# Altium schematic symbol library SCH - CONNECTORS - WURTH 693071010811 MICROSD.SCHLIB: 1 symbol
Pins are listed as number, name and electrical type; pins without a type are passive.

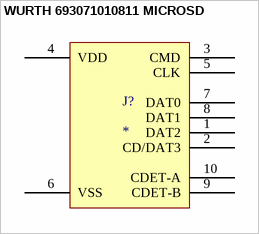
[diagram p0: symbol WURTH 693071010811 MICROSD]

## WURTH 693071010811 MICROSD
designator J?
pins: 1 DAT2, 2 CD/DAT3, 3 CMD, 4 VDD, 5 CLK, 6 VSS, 7 DAT0, 8 DAT1, 9 CDET-B, 10 CDET-A